# EAGLE library part TPS2121 (library bschulz)
TPS2121 - Priority Power MUX with Seamless Switchover (OR'ing switch) Characteristics: Vin: 2.8V ~ 22V Iout: 4.5A, max Ron: 56mΩ Switch Topology: 2:1 IQ: 200μA typ Current Limiting: 1A ~ 4.5A Operating Temperature: -40°C to 85°C Digikey: 296-53410-1-ND <https://www.digikey.com/en/products/detail/texas-instruments/TPS2121RUXR/9859001>
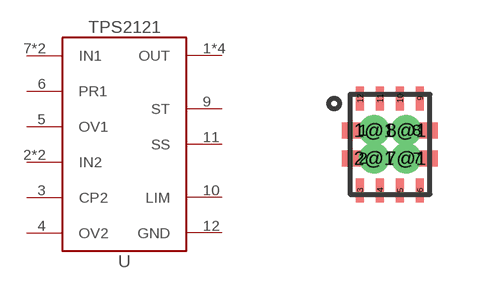
[diagram p133: symbol with the pads of RUX0012A; footprint RUX0012A]

Designator prefix U

## TPS2121 (DIGIKEY: 296-53410-1-ND; MF: TI; MPN: TPS2121RUXR)  [RUX0012A]
1  OUT  pwr
1@1  OUT  pwr
2  IN2  pwr
2@1  IN2  pwr
3  CP2  in
4  OV2  in
5  OV1  in
6  PR1  in
7  IN1  pwr
7@1  IN1  pwr
8  OUT  pwr
8@1  OUT  pwr
9  ST  out
10  LIM  out
11  SS  out
12  GND  pwr

## Footprint RUX0012A (pad centres in mm)
RUX0012A - VQFN-HR Datasheet <https://www.ti.com/lit/ds/symlink/tps2120.pdf?HQS=dis-dk-null-digikeymode-dsf-pf-null-wwe&ts=1612473896236>
smd 1.05 x 0.4: 1 -0.675,0.35; 2 -0.675,-0.35; 7 0.675,-0.35; 8 0.675,0.35
drill 0.254 pad 0.305: 1@1 -0.4,0.35; 2@1 -0.4,-0.35; 7@1 0.4,-0.35; 8@1 0.4,0.35
smd 0.2 x 0.6: 3 -0.75,-1.15; 4 -0.25,-1.15; 5 0.25,-1.15; 6 0.75,-1.15; 9 0.75,1.15; 10 0.25,1.15; 11 -0.25,1.15; 12 -0.75,1.15